# EAGLE library part ATMEGA32*QFN-TP (library IC_Embedded)
8-bit Microcontroller with 32KBytes In-System Programmable Flash Datasheet <http://ww1.microchip.com/downloads/en/DeviceDoc/doc2503.pdf>
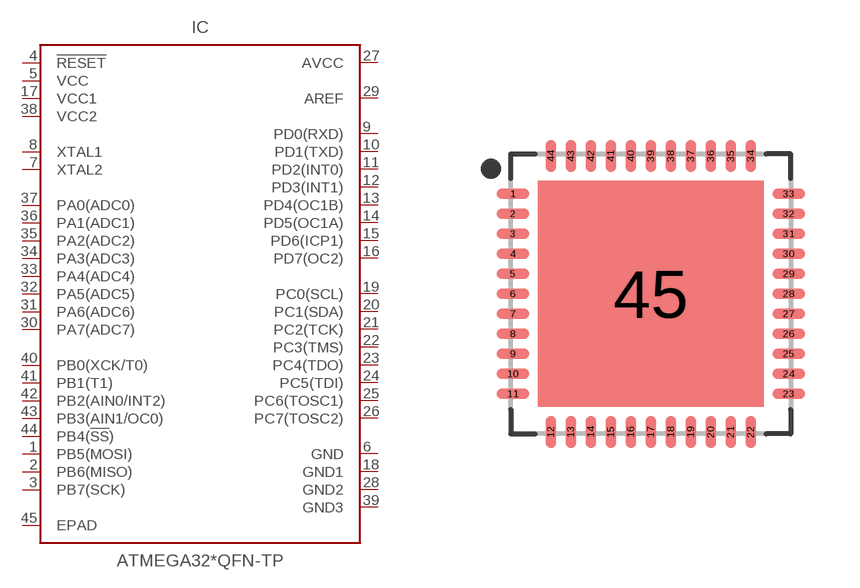
[diagram p14: symbol with the pads of QFN50P700X700X100-45T565; footprint QFN50P700X700X100-45T565]

Designator prefix IC

## ATMEGA32-16MUR_QFN-TP (CATEGORY: IC_Embedded; DESCRIPTION: IC MCU 8BIT 32KB FLASH 44VQFN; MANUFACTURER: Microchip Technology; MPN: ATMEGA32-16MUR; OPERATING_TEMP: -40°C to 85°C; PART_STATUS: Active; SERIES: AVR® ATmega; SPEED: 16MHz; SUB-CATEGORY: Microcontroller; VALUE: ATMEGA16), ATMEGA32-16MU_QFN-TP (CATEGORY: IC_Embedded; DESCRIPTION: IC MCU 8BIT 32KB FLASH 44VQFN; MANUFACTURER: Microchip Technology; MPN: ATMEGA32-16MU; OPERATING_TEMP: -40°C to 85°C; PART_STATUS: Active; SERIES: AVR® ATmega; SPEED: 16MHz; SUB-CATEGORY: Microcontroller; VALUE: ATMEGA16), ATMEGA32A-MNR_QFN-TP (CATEGORY: IC_Embedded; DESCRIPTION: IC MCU 8BIT 32KB FLASH 44VQFN; MANUFACTURER: Microchip Technology; MPN: ATMEGA32A-MNR; OPERATING_TEMP: -40°C to 105°C; PART_STATUS: Active; SERIES: AVR® ATmega; SPEED: 16MHz; SUB-CATEGORY: Microcontroller; VALUE: ATMEGA16), ATMEGA32A-MN_QFN-TP (CATEGORY: IC_Embedded; DESCRIPTION: IC MCU 8BIT 32KB FLASH 44VQFN; MANUFACTURER: Microchip Technology; MPN: ATMEGA32A-MN; OPERATING_TEMP: -40°C to 105°C; PART_STATUS: Active; SERIES: AVR® ATmega; SPEED: 16MHz; SUB-CATEGORY: Microcontroller; VALUE: ATMEGA16), ATMEGA32A-MUR_QFN-TP (CATEGORY: IC_Embedded; DESCRIPTION: IC MCU 8BIT 32KB FLASH 44VQFN; MANUFACTURER: Microchip Technology; MPN: ATMEGA32A-MUR; OPERATING_TEMP: -40°C to 85°C; PART_STATUS: Active; SERIES: AVR® ATmega; SPEED: 8MHz; SUB-CATEGORY: Microcontroller; VALUE: ATMEGA16), ATMEGA32A-MU_QFN-TP (CATEGORY: IC_Embedded; DESCRIPTION: IC MCU 8BIT 32KB FLASH 44VQFN; MANUFACTURER: Microchip Technology; MPN: ATMEGA32A-MU; OPERATING_TEMP: -40°C to 85°C; PART_STATUS: Active; SERIES: AVR® ATmega; SPEED: 8MHz; SUB-CATEGORY: Microcontroller; VALUE: ATMEGA16), ATMEGA32L-8MUR_QFN-TP (CATEGORY: IC_Embedded; DESCRIPTION: IC MCU 8BIT 32KB FLASH 44VQFN; MANUFACTURER: Microchip Technology; MPN: ATMEGA32L-8MUR; OPERATING_TEMP: -40°C to 85°C; PART_STATUS: Active; SERIES: AVR® ATmega; SPEED: 16MHz; SUB-CATEGORY: Microcontroller; VALUE: ATMEGA16), ATMEGA32L-8MU_QFN-TP (CATEGORY: IC_Embedded; DESCRIPTION: IC MCU 8BIT 32KB FLASH 44VQFN; MANUFACTURER: Microchip Technology; MPN: ATMEGA32L-8MU; OPERATING_TEMP: -40°C to 85°C; PART_STATUS: Active; SERIES: AVR® ATmega; SPEED: 16MHz; SUB-CATEGORY: Microcontroller; VALUE: ATMEGA16)  [QFN50P700X700X100-45T565]
1  PB5(MOSI)
2  PB6(MISO)
3  PB7(SCK)
4  !RESET!  in
5  VCC  pwr
6  GND  pwr
7  XTAL2  pas
8  XTAL1  pas
9  PD0(RXD)
10  PD1(TXD)
11  PD2(INT0)
12  PD3(INT1)
13  PD4(OC1B)
14  PD5(OC1A)
15  PD6(ICP1)
16  PD7(OC2)
17  VCC1  pwr
18  GND1  pwr
19  PC0(SCL)
20  PC1(SDA)
21  PC2(TCK)  in
22  PC3(TMS)  in
23  PC4(TDO)  out
24  PC5(TDI)  in
25  PC6(TOSC1)
26  PC7(TOSC2)
27  AVCC  pwr
28  GND2  pwr
29  AREF  pas
30  PA7(ADC7)
31  PA6(ADC6)
32  PA5(ADC5)
33  PA4(ADC4)
34  PA3(ADC3)
35  PA2(ADC2)
36  PA1(ADC1)
37  PA0(ADC0)
38  VCC2  pwr
39  GND3  pwr
40  PB0(XCK/T0)
41  PB1(T1)
42  PB2(AIN0/INT2)
43  PB3(AIN1/OC0)
44  PB4(!SS!)
45  EPAD

## Footprint QFN50P700X700X100-45T565 (pad centres in mm)
44-QFN, 0.50 mm pitch, 7.00 X 7.00 X 1.00 mm body, 5.65 X 5.65 mm thermal pad 44-pin QFN package with 0.50 mm pitch with body size 7.00 X 7.00 X 1.00 mm and thermal pad size 5.65 X 5.65 mm
smd 0.811 x 0.264: 1 -3.451,2.5; 2 -3.451,2; 3 -3.451,1.5; 4 -3.451,1; 5 -3.451,0.5; 6 -3.451,0; 7 -3.451,-0.5; 8 -3.451,-1; 9 -3.451,-1.5; 10 -3.451,-2; 11 -3.451,-2.5; 23 3.451,-2.5; 24 3.451,-2; 25 3.451,-1.5; 26 3.451,-1; 27 3.451,-0.5; 28 3.451,0; 29 3.451,0.5; 30 3.451,1; 31 3.451,1.5; 32 3.451,2; 33 3.451,2.5
smd 0.264 x 0.811: 12 -2.5,-3.451; 13 -2,-3.451; 14 -1.5,-3.451; 15 -1,-3.451; 16 -0.5,-3.451; 17 0,-3.451; 18 0.5,-3.451; 19 1,-3.451; 20 1.5,-3.451; 21 2,-3.451; 22 2.5,-3.451; 34 2.5,3.451; 35 2,3.451; 36 1.5,3.451; 37 1,3.451; 38 0.5,3.451; 39 0,3.451; 40 -0.5,3.451; 41 -1,3.451; 42 -1.5,3.451; 43 -2,3.451; 44 -2.5,3.451
smd 5.65 x 5.65: 45 0,0